# Altium footprint library PWRCONV.PcbLib: 23 footprints (part 2 of 2)
Each footprint in its own frame and in the unit in brackets; x right, y up, seen from the top. Pads: shape width x height; smd on the part's side, far side on the other; paste and mask are expansions set on the pad; w line width, h text height; cw(c..) or ccw(c..) is an arc to the next point about the centre after c.
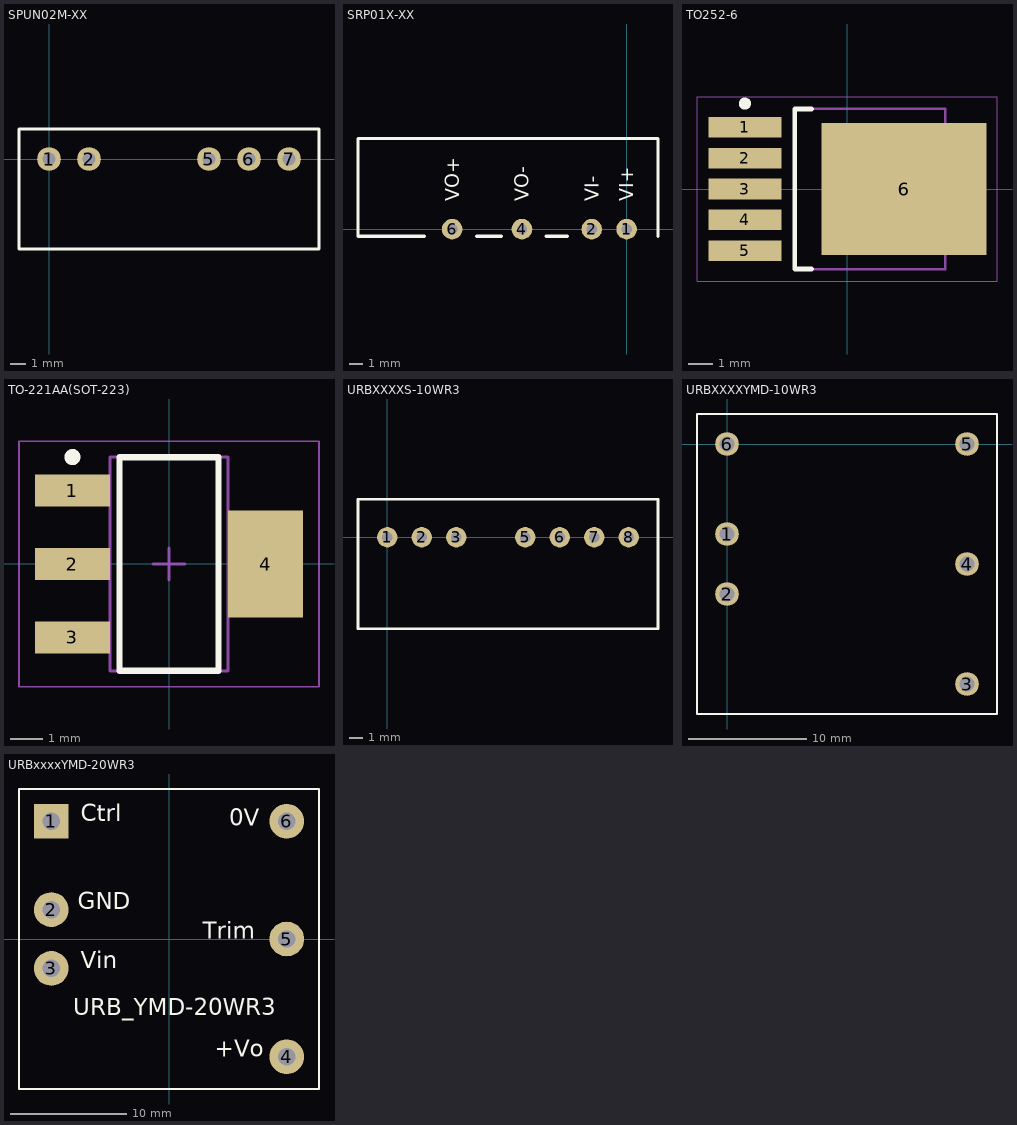
[diagram p1: the footprints below, top view; thin cyan lines are the x and y axes]

## SPUN02M-XX [mm] "SIP Package 19.6x7.2mm Height 10.2mm"
height 10.2
pads (5):
  round 1.5 hole 0.8: 1(0,0) 2(2.54,0) 5(10.16,0) 6(12.7,0) 7(15.24,0)
Top Overlay:
  lines w0.2: -1.905,-5.715 17.145,-5.715 17.145,0 17.145,1.905 -1.905,1.905 -1.905,-5.715
Bottom Overlay:
  text "+Vout" at 15.615,-1.096 h0.75
  text "-Vout" at 10.535,-1.096 h0.75
  text "-Vin" at 2.915,-1.721 h0.75
  text "+Vin" at 0.375,-1.721 h0.75
3D body: height 10.2, standoff 0, extent -1.905,-5.715 17.145,1.905

## SRP01X-XX [mm] "Isolated DC/DC Converters 1W 5V/0-200mA W/EMI FILTER"
pads (4):
  round 1.5 hole 0.75: 1(0,0) 2(-2.54,0) 4(-7.62,0) 6(-12.7,0)
Top Overlay:
  lines w0.254: -14.732,-0.508 -19.558,-0.508 -19.558,6.604 2.286,6.604 2.286,-0.508 ; -10.922,-0.508 -9.144,-0.508 ; -5.842,-0.508 -4.318,-0.508
  text "VO+" at -12.2,2.032 h1
  text "VO-" at -7.12,2.032 h1
  text "VI-" at -2.04,2.032 h1
  text "VI+" at 0.5,2.032 h1
3D body: height 10.14, standoff 0, extent -19.558,-0.508 2.286,6.604

## TO252-6 [mm] "D2-PAK, 6-Pads, Body 7,68x8,69mm (max), IPC Low Density"
height 2.39
pads (6):
  rect 3x0.85 smd: 1(-4.2,2.54) 2(-4.2,1.27) 3(-4.2,0) 4(-4.2,-1.27) 5(-4.2,-2.54)
  rect 6.8x5.45 smd: 6(2.35,0)
Top Overlay:
  circle w0.25: c-4.2,3.515 r0.125
  lines w0.2: -1.45,-3.3 -2.15,-3.3 -2.15,3.3 -1.45,3.3
Body:
  lines w0.1: -2.15,-3.3 -2.15,3.3 4.05,3.3 4.05,-3.3 -2.15,-3.3
Border:
  lines w0.05: -6.175,-3.8 -6.175,3.8 6.175,3.8 6.175,-3.8 -6.175,-3.8
  lines w0.1: -0.5,0 0.5,0 ; 0,-0.5 0,0.5
3D body "TO252-6.step": height 2.39, standoff 0, extent -4.506,-3.3 5.4,3.3

## TO-221AA(SOT-223) [mm]
pads (4):
  rect 2.35x1 smd: 1(-3.025,2.3) 2(-3.025,0) 3(-3.025,-2.3)
  rect 2.35x3.35 smd: 4(3.025,0)
Top Overlay:
  circle w0.25: c-3.025,3.35 r0.125
  lines w0.2: -1.55,-3.35 -1.55,3.35 1.55,3.35 1.55,-3.35 -1.55,-3.35
Body:
  lines w0.1: -1.85,-3.35 -1.85,3.35 1.85,3.35 1.85,-3.35 -1.85,-3.35
Border:
  lines w0.05: -4.7,-3.85 -4.7,3.85 4.7,3.85 4.7,-3.85 -4.7,-3.85
  lines w0.1: -0.5,0 0.5,0 ; 0,-0.5 0,0.5
3D body: height 1.8, standoff 0.02, extent -1.85,-3.35 1.85,3.35

## URBXXXXS-10WR3 [mm] "SIP Package 22x9.5mm Height 12mm"
height 12
pads (7):
  round 1.5 hole 0.8: 1(0,0) 2(2.54,0) 3(5.08,0) 5(10.16,0) 6(12.7,0) 7(15.24,0) 8(17.78,0)
Top Overlay:
  lines w0.2: -2.159,-6.731 19.939,-6.731 19.939,-2.794 19.939,2.794 -2.159,2.794 -2.159,-6.731
Bottom Overlay:
  text "0Vout" at 15.615,-1.096 h0.75
  text "+Vout" at 13.075,-1.116 h0.75
  text "+Vin" at 2.915,-1.721 h0.75
  text "0Vin" at 0.375,-1.721 h0.75
  text "Ctrl" at 5.455,-1.721 h0.75
3D body: height 10.2, standoff 0, extent -2.159,-6.731 19.939,2.794

## URBXXXXYMD-10WR3 [mm] "Mornsun America, URB4805YMD-10WR3 (10W), LLC 6-DIP Module, 5 Leads (25.4mm x 25.4mm x 11.7mm)"
height 11.7
pads (6):
  round 2 hole 1.25: 1(0,-7.62) 2(0,-12.7) 3(20.32,-20.32) 4(20.32,-10.16) 5(20.32,0) 6(0,0)
Top Overlay:
  lines w0.2: -2.54,-22.86 22.86,-22.86 22.86,2.54 -2.54,2.54 -2.54,-22.86
3D body: height 11.7, standoff 0, extent -2.54,-22.86 22.86,2.54

## URBxxxxYMD-20WR3 [mm] "5-DIP Module, 4 Leads 1.00\"\" L x 1.00\"\" W x 0.46\"\" H (25.4mm x 25.4mm x 11.7mm)"
height 11.7
pads (6):
  rect 3x3 hole 1.5: 1(-10.16,10.16)
  round 3 hole 1.5: 2(-10.16,2.54) 3(-10.16,-2.54) 4(10.16,-10.16) 5(10.16,0) 6(10.16,10.16)
Top Overlay:
  lines w0.2: -12.95,-12.95 12.95,-12.95 12.95,12.95 -12.95,12.95 -12.95,-12.95
  text "Trim" at 2.921,-0.508 h2.5
  text "+Vo" at 3.937,-10.668 h2.5
  text "Vin" at -7.62,-3.048 h2.5
  text "GND" at -7.874,2.032 h2.5
  text "URB_YMD-20WR3" at -8.255,-7.112 h2.5
  text "Ctrl" at -7.62,9.652 h2.5
  text "0V" at 5.207,9.271 h2.5
3D body: height 11.7, standoff 0, extent -12.7,-12.7 12.7,12.7